# EAGLE library part AT24CXX (library memory-atmel)
EEPROM I2C serial bus
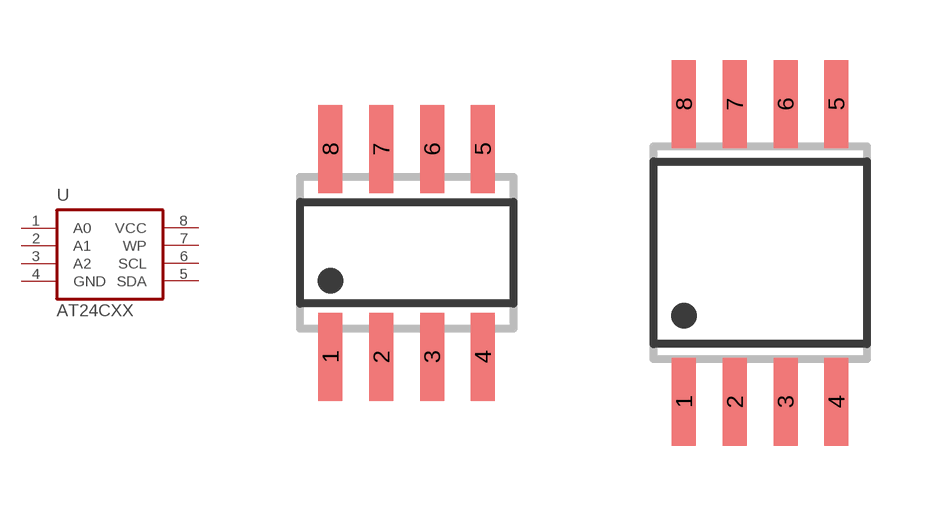
[diagram p7: symbol with the pads of SO08-8S1; footprints SO08-8S1, SO08-8S2]

Designator prefix U

## AT24CXX-8S1  [SO08-8S1]
1  A0  in
2  A1  in
3  A2  in
4  GND  pwr
5  SDA
6  SCL
7  WP
8  VCC  pwr

## AT24CXX-8S2  [SO08-8S2]
Pads as for SO08-8S1

## Footprint SO08-8S1 (pad centres in mm)
SMALL OUTLINE INTEGRATED CIRCUIT 8S1, body 3.9 mm/JEDEC MS-012AA
smd 0.6 x 2.2: 1 -1.905,-2.6; 2 -0.635,-2.6; 3 0.635,-2.6; 4 1.905,-2.6; 5 1.905,2.6; 6 0.635,2.6; 7 -0.635,2.6; 8 -1.905,2.6

## Footprint SO08-8S2 (pad centres in mm)
SMALL OUTLINE INTEGRATED CIRCUIT 8S2 Package (EIAJ), 5.4 mm body
smd 0.6 x 2.2: 1 -1.905,-3.725; 2 -0.635,-3.725; 3 0.635,-3.725; 4 1.905,-3.725; 5 1.905,3.725; 6 0.635,3.725; 7 -0.635,3.725; 8 -1.905,3.725